# EAGLE library part TRANSFORMER1:2 (library lolomolo)
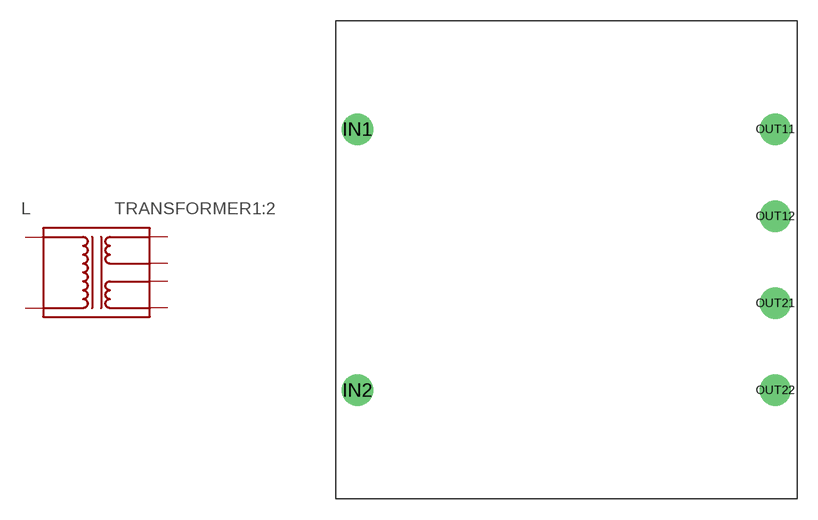
[diagram p19: symbol with the pads of TRANSFORMER_CUSTOM1; footprint TRANSFORMER_CUSTOM1]

Designator prefix L

## TRANSFORMER1:2  [TRANSFORMER_CUSTOM1]
IN1  IN1
IN2  IN2
OUT11  OUT11
OUT12  OUT12
OUT21  OUT21
OUT22  OUT22

## Footprint TRANSFORMER_CUSTOM1 (pad centres in mm)
drill 1.524: IN1 0,9.525; IN2 0,-9.525; OUT11 30.48,9.525; OUT12 30.48,3.175; OUT21 30.48,-3.175; OUT22 30.48,-9.525